# Altium schematic symbol library XTAL.Schlib: 1 symbol
Pins are listed as number, name and electrical type; pins without a type are passive.

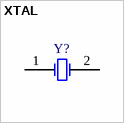
[diagram p0: symbol XTAL]

## XTAL
designator Y?
Crystal Oscillator
pins: 1 OSC1, 2 OSC2